# EAGLE library part 7372 (library 7372)
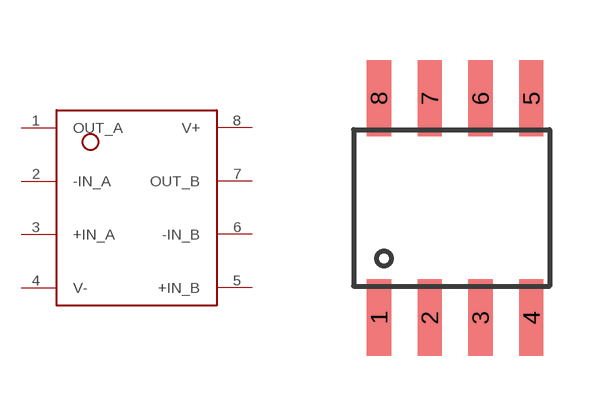
[diagram p0: symbol with the pads of 7372; footprint 7372]

Designator prefix LM7372

## 7372  [7372]
1  OUT_A
2  -IN_A
3  +IN_A
4  V-
5  +IN_B
6  -IN_B
7  OUT_B
8  V+

## Footprint 7372 (pad centres in mm)
smd 0.61 x 1.905: 1 4.699,2.921; 2 5.969,2.921; 3 7.239,2.921; 4 8.509,2.921; 5 8.509,8.407; 6 7.239,8.407; 7 5.969,8.407; 8 4.699,8.407